# Altium footprint library SMA_1.PcbLib: 1 footprints
Each footprint in its own frame and in the unit in brackets; x right, y up, seen from the top. Pads: shape width x height; smd on the part's side, far side on the other; paste and mask are expansions set on the pad; w line width, h text height; cw(c..) or ccw(c..) is an arc to the next point about the centre after c.
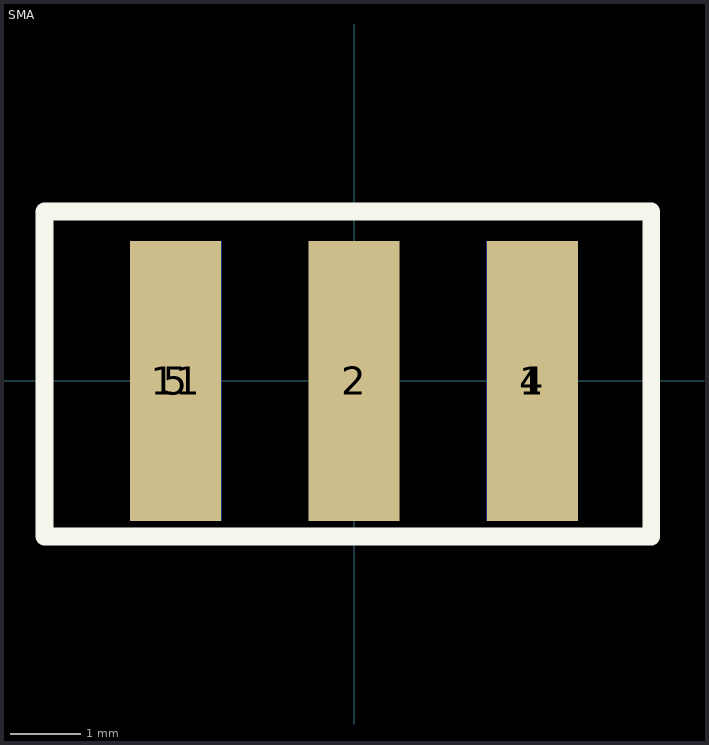
[diagram p0: the footprint, top view; thin cyan lines are the x and y axes]

## SMA [mm]
pads (5):
  rect 1.3x4 smd: 1(2.55,0) 2(0,0) 5(-2.55,0)
  rect 1.3x4 smd far side: 4(2.55,0) 11(-2.55,0)
Top Overlay:
  lines w0.254: -4.425,-2.225 -4.425,2.425 4.25,2.425 4.25,-2.225 -4.425,-2.225
3D body "SMA_1.x_t": height 5.12, standoff -4.12, extent -4.05,-14.215 3.95,2.025